# Altium footprint library MCP73831 fotprint.PcbLib: 1 footprints
Each footprint in its own frame and in the unit in brackets; x right, y up, seen from the top. Pads: shape width x height; smd on the part's side, far side on the other; paste and mask are expansions set on the pad; w line width, h text height; cw(c..) or ccw(c..) is an arc to the next point about the centre after c.
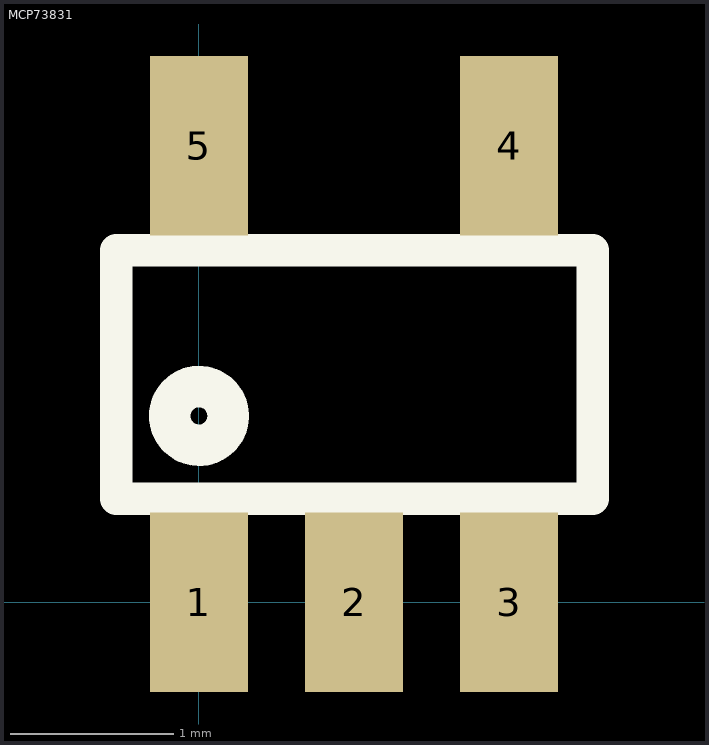
[diagram p0: the footprint, top view; thin cyan lines are the x and y axes]

## MCP73831 [mm]
pads (5):
  rect 0.6x1.1 smd paste+0 mask+0.05: 1(0,0) 2(0.95,0) 3(1.9,0) 4(1.9,2.8) 5(0,2.8)
Top Overlay:
  circle w0.254: c0,1.143 r0.18
  lines w0.2: -0.508,0.635 2.413,0.635 2.413,2.159 -0.508,2.159 -0.508,0.635